# EAGLE library part ARDUINO_MICRO (library bao)
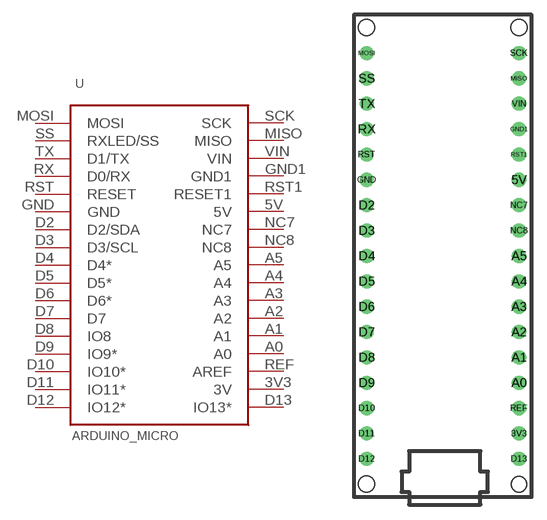
[diagram p16: symbol with the pads of ARDUINO-MICRO; footprint ARDUINO-MICRO]

Designator prefix -

## ARDUINO_MICRO_ (NHPREF: 237; POPULATE: TRUE; VALUE: ArduinoMicro)  [ARDUINO-MICRO]
3V3  3V
5V  5V
A0  A0
A1  A1
A2  A2
A3  A3
A4  A4
A5  A5
D2  D2/SDA
D3  D3/SCL
D4  D4*
D5  D5*
D6  D6*
D7  D7
D8  IO8
D9  IO9*
D10  IO10*
D11  IO11*
D12  IO12*
D13  IO13*
GND  GND
GND1  GND1
MISO  MISO
MOSI  MOSI
NC7  NC7
NC8  NC8
REF  AREF
RST  RESET
RST1  RESET1
RX  D0/RX
SCK  SCK
SS  RXLED/SS
TX  D1/TX
VIN  VIN

## Footprint ARDUINO-MICRO (pad centres in mm)
drill 0.9: 3V3 7.62,3.81; 5V 7.62,29.21; A0 7.62,8.89; A1 7.62,11.43; A2 7.62,13.97; A3 7.62,16.51; A4 7.62,19.05; A5 7.62,21.59; D2 -7.62,26.67; D3 -7.62,24.13; D4 -7.62,21.59; D5 -7.62,19.05; D6 -7.62,16.51; D7 -7.62,13.97; D8 -7.62,11.43; D9 -7.62,8.89; D10 -7.62,6.35; D11 -7.62,3.81; D12 -7.62,1.27; D13 7.62,1.27; GND -7.62,29.21; GND1 7.62,34.29; MISO 7.62,39.37; MOSI -7.62,41.91; NC7 7.62,26.67; NC8 7.62,24.13; REF 7.62,6.35; RST -7.62,31.75; RST1 7.62,31.75; RX -7.62,34.29; SCK 7.62,41.91; SS -7.62,39.37; TX -7.62,36.83; VIN 7.62,36.83